# Altium integrated library HTLinn_OPV.IntLib: 20 symbols
Pins are listed as number, name and electrical type; pins without a type are passive.

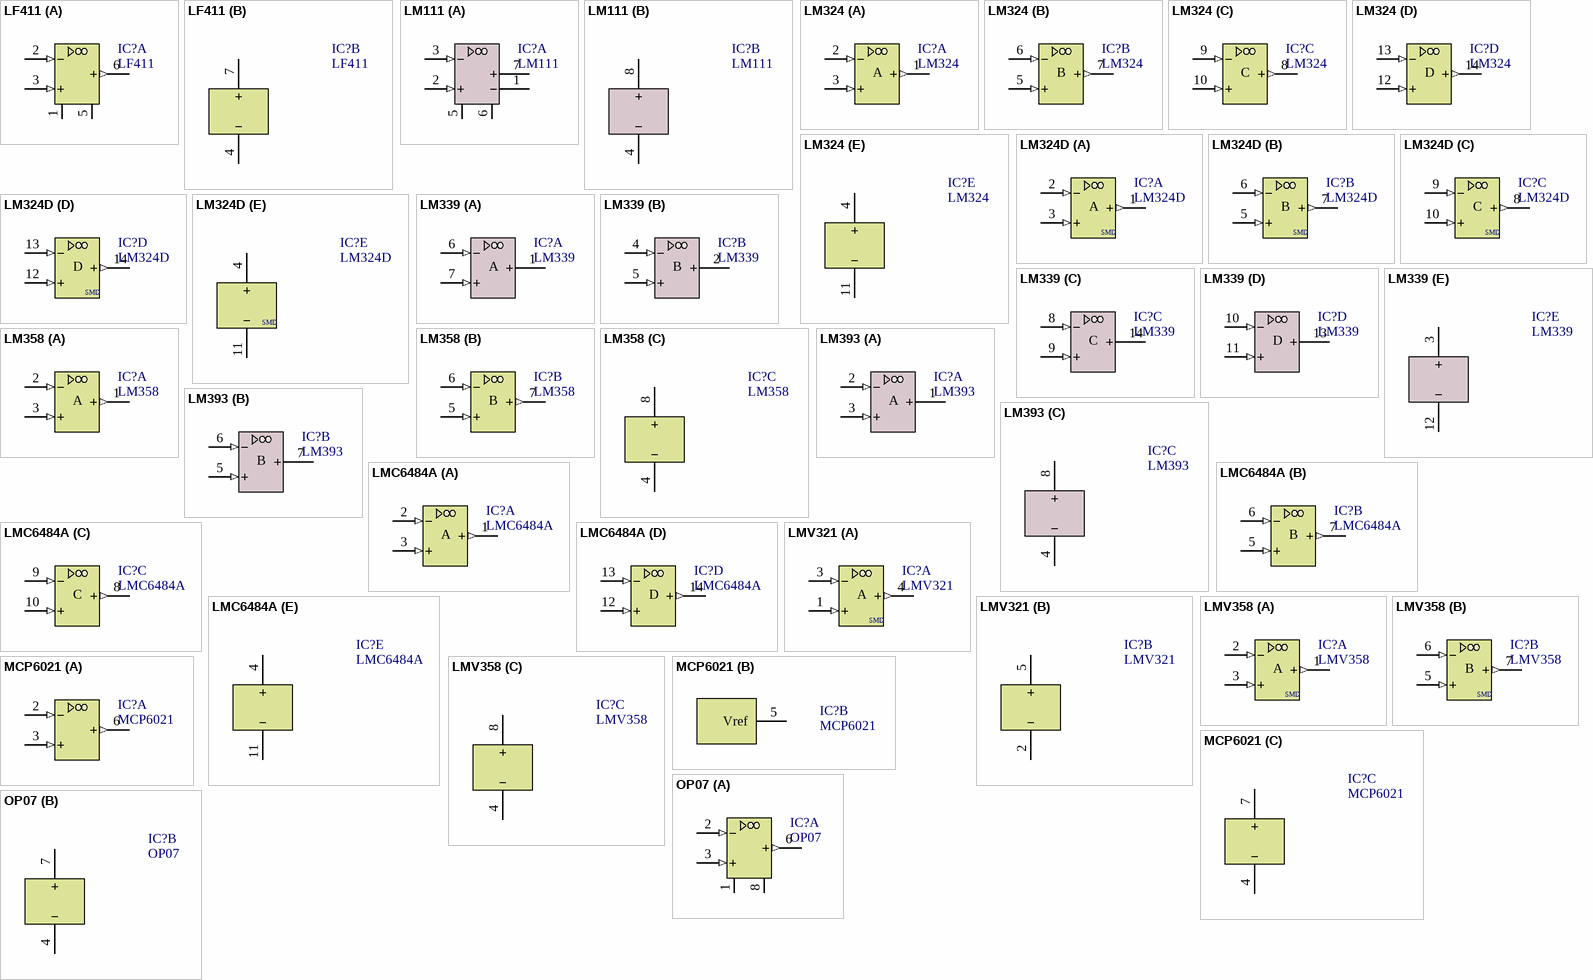
[diagram p0: symbols LF411 to OP07]

## LF411
designator IC?
Low Offset, Low Drift JFET Input Operational Amplifier; Usage: only permitted for non-commercial purposes at HTL I Innsbruck; SimulationModellSource: NSC Amplifier; Published: 21-Feb-2011; LatestRevisionDate: 31-Oct-2012; Publisher: Michael Kupfner
footprint DIP08 (DIP; 8 Leads; Row Spacing 7.62 mm; Pitch 2.54 mm)
simulation model LF411
part A pins: 1 OS NULL, 2 IN- (in), 3 IN+ (in), 5 OS NULL, 6 OUT (out), 8 NC hidden
part B pins: 4 V- (power), 7 V+ (power)
1 alternate drawing of the same symbol

## LM111
designator IC?
Differential Comparator with Strobe; Usage: only permitted for non-commercial purposes at HTL I Innsbruck; SimulationModellSource: TI Analog Comparator; Published: 21-Feb-2011; LatestRevisionDate: 31-Oct-2012; Publisher: Michael Kupfner
footprint DIP08 (DIP; 8 Leads; Row Spacing 7.62 mm; Pitch 2.54 mm)
simulation model LM111 (SUBCKT)
part A pins: 1 EMIT OUT (power), 2 IN+ (in), 3 IN- (in), 5 BAL, 6 BAL/STB, 7 COL OUT (oc)
part B pins: 4 V- (power), 8 V+ (power)

## LM324
designator IC?
Low-Power Quad Operational Amplifier; Usage: only permitted for non-commercial purposes at HTL I Innsbruck; SimulationModellSource: ST Operational Amplifier; Published: 21-Feb-2011; LatestRevisionDate: 31-Oct-2012; Publisher: Michael Kupfner
footprint DIP14 (DIP; 14 Leads; Row Spacing 7.62 mm; Pitch 2.54 mm)
simulation model LM324 (SUBCKT)
part A pins: 1 OUT (out), 2 IN- (in), 3 IN+ (in)
part B pins: 5 IN+ (in), 6 IN- (in), 7 OUT (out)
part C pins: 8 OUT (out), 9 IN- (in), 10 IN+ (in)
part D pins: 12 IN+ (in), 13 IN- (in), 14 OUT (out)
part E pins: 4 V+ (power), 11 V- (power)
2 alternate drawings of the same symbol
part A text: A
part B text: B
part C text: C
part D text: D

## LM324D
designator IC?
SMD Low-Power Quad Operational Amplifier; Usage: only permitted for non-commercial purposes at HTL I Innsbruck; SimulationModellSource: ST Operational Amplifier; Published: 21-Feb-2011; LatestRevisionDate: 02-Dec-2017; Publisher: Michael Kupfner
footprint SOIC-14 (SOIC, 14-Leads, Body 8.7x3.9mm, Pitch 1.27mm, IPC Low Density)
simulation model LM324 (SUBCKT)
part A pins: 1 OUT (out), 2 IN- (in), 3 IN+ (in)
part B pins: 5 IN+ (in), 6 IN- (in), 7 OUT (out)
part C pins: 8 OUT (out), 9 IN- (in), 10 IN+ (in)
part D pins: 12 IN+ (in), 13 IN- (in), 14 OUT (out)
part E pins: 4 V+ (power), 11 V- (power)
2 alternate drawings of the same symbol
part A text: A; SMD
part B text: B; SMD
part C text: C; SMD
part D text: D; SMD
part E text: SMD

## LM339
designator IC?
Quad Differential Comparator; SimulationModellSource: TI Analog Comparator; Usage: only permitted for non-commercial purposes at HTL I Innsbruck; Published: 21-Feb-2011; LatestRevisionDate: 31-Oct-2012; Publisher: Michael Kupfner
footprint DIP14 (DIP; 14 Leads; Row Spacing 7.62 mm; Pitch 2.54 mm)
simulation model LM339 (SUBCKT)
part A pins: 1 OUT (oc), 6 IN- (in), 7 IN+ (in)
part B pins: 2 OUT (oc), 4 IN- (in), 5 IN+ (in)
part C pins: 8 IN- (in), 9 IN+ (in), 14 OUT (oc)
part D pins: 10 IN- (in), 11 IN+ (in), 13 OUT (oc)
part E pins: 3 V+ (power), 12 V- (power)
2 alternate drawings of the same symbol
part A text: A
part B text: B
part C text: C
part D text: D

## LM358
designator IC?
Low-Power HiGain SingleSupply Dual Operational Amplifier; Usage: only permitted for non-commercial purposes at HTL I Innsbruck; SimulationModellSource: ST Operational Amplifier; Published: 03-Nov-2012; LatestRevisionDate: 03-Nov-2012; Publisher: Michael Kupfner
footprint DIP08 (DIP; 8 Leads; Row Spacing 7.62 mm; Pitch 2.54 mm)
simulation model LM358
part A pins: 1 OUT (out), 2 IN- (in), 3 IN+ (in)
part B pins: 5 IN+ (in), 6 IN- (in), 7 OUT (out)
part C pins: 4 V- (power), 8 V+ (power)
2 alternate drawings of the same symbol
part A text: A
part B text: B

## LM393
designator IC?
Dual Differential Comparator; SimulationModellSource: TI Analog Comparator; Usage: only permitted for non-commercial purposes at HTL I Innsbruck; Published: 21-Feb-2011; LatestRevisionDate: 18-May-2013; Publisher: Michael Kupfner
footprint DIP08 (DIP; 8 Leads; Row Spacing 7.62 mm; Pitch 2.54 mm)
simulation model LM393
part A pins: 1 OUT (oc), 2 IN- (in), 3 IN+ (in)
part B pins: 5 IN+ (in), 6 IN- (in), 7 OUT (oc)
part C pins: 4 V- (power), 8 V+ (power)
2 alternate drawings of the same symbol
part A text: A
part B text: B

## LMC6484A
designator IC?
CMOS Quad Rail to Rail Input and Output Operational Amplifier; Usage: only permitted for non-commercial purposes at HTL I Innsbruck; SimulationModellSource: NSC Amplifier; Published: 03-Sep-2011; LatestRevisionDate: 31-Oct-2012; Publisher: Michael Kupfner
footprint DIP14 (DIP; 14 Leads; Row Spacing 7.62 mm; Pitch 2.54 mm)
simulation model LMC6484A (SUBCKT)
part A pins: 1 OUT (out), 2 IN- (in), 3 IN+ (in)
part B pins: 5 IN+ (in), 6 IN- (in), 7 OUT (out)
part C pins: 8 OUT (out), 9 IN- (in), 10 IN+ (in)
part D pins: 12 IN+ (in), 13 IN- (in), 14 OUT (out)
part E pins: 4 V+ (power), 11 V- (power)
2 alternate drawings of the same symbol
part A text: A
part B text: B
part C text: C
part D text: D

## LMV321
designator IC?
Low-Voltage Rail-to-Rail Output Operational Amplifiers; Usage: only permitted for non-commercial purposes at HTL I Innsbruck; SimulationModellSource: <no appropriate Sim-Modell found>; Published: 04-jan_2018; LatestRevisionDate: 04-Jan-2018; Publisher: Michael Kupfner
footprint SOT-23-5_L (SOT23, 5-Leads, Body 2.9x1.6mm, Pitch 0.95mm, Lead Span 2.8mm, IPC High Density)
footprint SOT-23-5_M (SOT23, 5-Leads, Body 2.9x1.6mm, Pitch 0.95mm, Lead Span 2.8mm, IPC Low Density)
footprint SOT-23-5_N (SOT23, 5-Leads, Body 2.9x1.6mm, Pitch 0.95mm, Lead Span 2.8mm, IPC Medium Density)
part A pins: 1 IN+ (in), 3 IN- (in), 4 OUT (out)
part B pins: 2 V- (power), 5 V+ (power)
2 alternate drawings of the same symbol
part A text: A; SMD

## LMV358
designator IC?
Low-Power HiGain SingleSupply Dual Operational Amplifier; Usage: only permitted for non-commercial purposes at HTL I Innsbruck; SimulationModellSource: <no appropriate Sim-Modell found>; Published: 04-Jan-2017; LatestRevisionDate: 04-Jan-2017; Publisher: Michael Kupfner
footprint SOIC-8 (SOIC, 8-Leads, Body 4.9x3.8mm, Pitch 1.27mm, IPC Low Density)
part A pins: 1 OUT (out), 2 IN- (in), 3 IN+ (in)
part B pins: 5 IN+ (in), 6 IN- (in), 7 OUT (out)
part C pins: 4 V- (power), 8 V+ (power)
2 alternate drawings of the same symbol
part A text: A; SMD
part B text: B; SMD

## MCP6021
designator IC?
Rail-to-Rail Input/Output, 10MHz OpAmp; Usage: only permitted for non-commercial purposes at HTL I Innsbruck; SimulationModellSource: no Modell source found; Published: 16-May-2015; LatestRevisionDate: 16-May-2015; Publisher: Michael Kupfner
footprint DIP08 (DIP; 8 Leads; Row Spacing 7.62 mm; Pitch 2.54 mm)
footprint SOIC-8 (SOIC, 8-Leads, Body 4.9x3.8mm, Pitch 1.27mm, IPC Low Density)
part A pins: 2 IN- (in), 3 IN+ (in), 6 OUT (out)
part B pins: 5 Vref (power)
part C pins: 4 V- (power), 7 V+ (power)
1 alternate drawing of the same symbol

## OP07
designator IC?
Very Low Offset Single Bipolar Operational Amplifier; Usage: only permitted for non-commercial purposes at HTL I Innsbruck; SimulationModellSource: ST Operational Amplifier; Published: 21-Feb-2011; LatestRevisionDate: 31-Oct-2012; Publisher: Michael Kupfner
footprint DIP08 (DIP; 8 Leads; Row Spacing 7.62 mm; Pitch 2.54 mm)
simulation model OP07C (SUBCKT)
part A pins: 1 NULL1, 2 IN- (in), 3 IN+ (in), 5 NC hidden, 6 OUT (out), 8 NULL2
part B pins: 4 V- (power), 7 V+ (power)

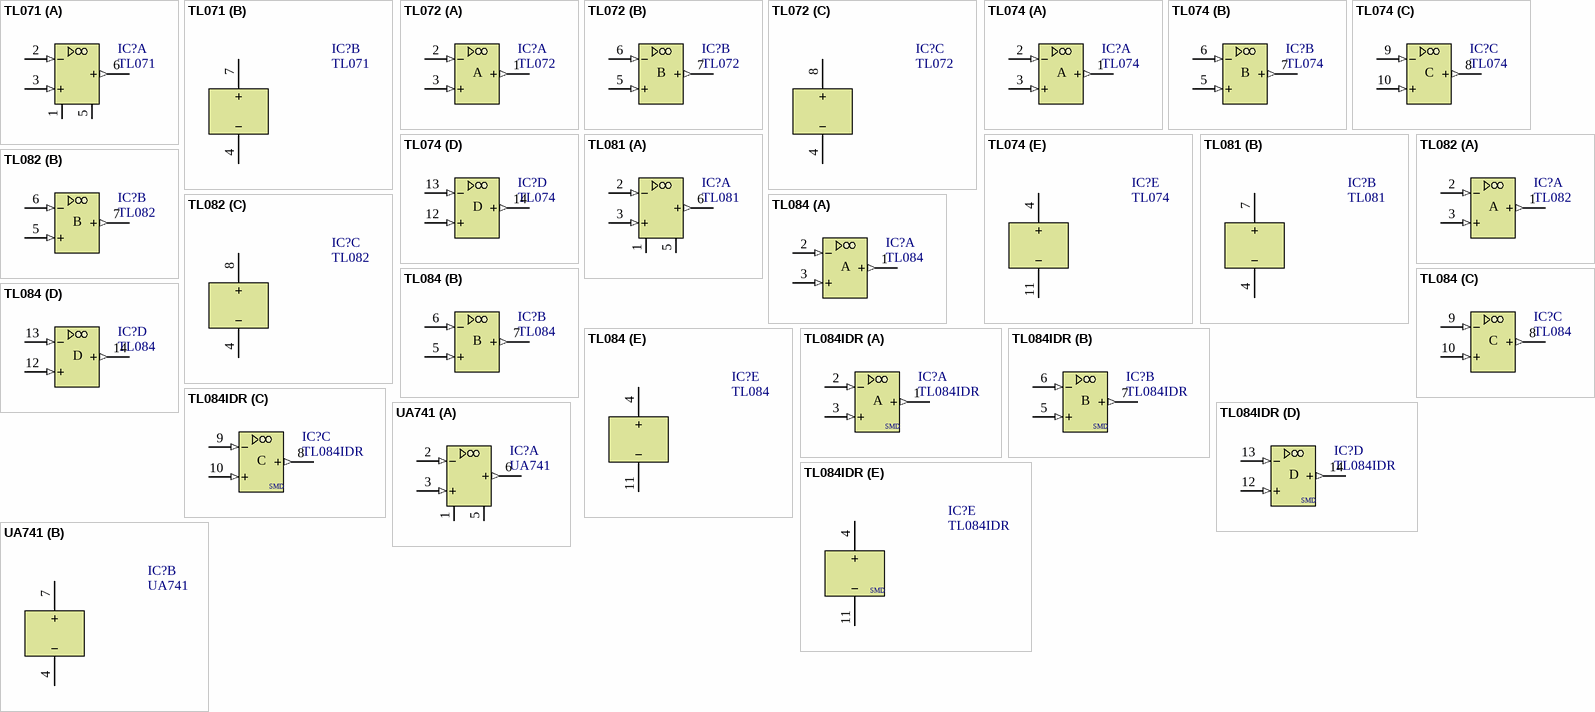
[diagram p1: symbols TL071 to UA741]

## TL071
designator IC?
Low-Noise J-FET Single Operational Amplifier; Usage: only permitted for non-commercial purposes at HTL I Innsbruck; SimulationModellSource: ST Operational Amplifier; Published: 21-Feb-2011; LatestRevisionDate: 31-Oct-2012; Publisher: Michael Kupfner
footprint DIP08 (DIP; 8 Leads; Row Spacing 7.62 mm; Pitch 2.54 mm)
simulation model TL071 (SUBCKT)
part A pins: 1 OS NULL, 2 IN- (in), 3 IN+ (in), 5 OS NULL, 6 OUT (out), 8 NC hidden
part B pins: 4 V- (power), 7 V+ (power)
1 alternate drawing of the same symbol

## TL072
designator IC?
Low-Noise J-FET Dual Operational Amplifier; Usage: only permitted for non-commercial purposes at HTL I Innsbruck; SimulationModellSource: ST Operational Amplifier; Published: 21-Feb-2011; LatestRevisionDate: 31-Oct-2012; Publisher: Michael Kupfner
footprint DIP08 (DIP; 8 Leads; Row Spacing 7.62 mm; Pitch 2.54 mm)
simulation model TL072 (SUBCKT)
part A pins: 1 OUT (out), 2 IN- (in), 3 IN+ (in)
part B pins: 5 IN+ (in), 6 IN- (in), 7 OUT (out)
part C pins: 4 V- (power), 8 V+ (power)
2 alternate drawings of the same symbol
part A text: A
part B text: B

## TL074
designator IC?
Low-Noise J-FET Quad Operational Amplifier; Usage: only permitted for non-commercial purposes at HTL I Innsbruck; SimulationModellSource: ST Operational Amplifier; Published: 21-Feb-2011; LatestRevisionDate: 31-Oct-2012; Publisher: Michael Kupfner
footprint DIP14 (DIP; 14 Leads; Row Spacing 7.62 mm; Pitch 2.54 mm)
simulation model TL074 (SUBCKT)
part A pins: 1 OUT (out), 2 IN- (in), 3 IN+ (in)
part B pins: 5 IN+ (in), 6 IN- (in), 7 OUT (out)
part C pins: 8 OUT (out), 9 IN- (in), 10 IN+ (in)
part D pins: 12 IN+ (in), 13 IN- (in), 14 OUT (out)
part E pins: 4 V+ (power), 11 V- (power)
2 alternate drawings of the same symbol
part A text: A
part B text: B
part C text: C
part D text: D

## TL081
designator IC?
General-Purpose J-FET Single Operational Amplifier; Usage: only permitted for non-commercial purposes at HTL I Innsbruck; SimulationModellSource: ST Operational Amplifier; Published: 21-Feb-2011; LatestRevisionDate: 31-Oct-2012; Publisher: Michael Kupfner
footprint DIP08 (DIP; 8 Leads; Row Spacing 7.62 mm; Pitch 2.54 mm)
simulation model TL081 (SUBCKT)
part A pins: 1 OS NULL, 2 IN- (in), 3 IN+ (in), 5 OS NULL, 6 OUT (out), 8 NC hidden
part B pins: 4 V- (power), 7 V+ (power)
1 alternate drawing of the same symbol

## TL082
designator IC?
General-Purpose J-FET Dual Operational Amplifier; Usage: only permitted for non-commercial purposes at HTL I Innsbruck; SimulationModellSource: ST Operational Amplifier; Published: 21-Feb-2011; LatestRevisionDate: 31-Oct-2012; Publisher: Michael Kupfner
footprint DIP08 (DIP; 8 Leads; Row Spacing 7.62 mm; Pitch 2.54 mm)
simulation model TL082 (SUBCKT)
part A pins: 1 OUT (out), 2 IN- (in), 3 IN+ (in)
part B pins: 5 IN+ (in), 6 IN- (in), 7 OUT (out)
part C pins: 4 V- (power), 8 V+ (power)
2 alternate drawings of the same symbol
part A text: A
part B text: B

## TL084
designator IC?
General-Purpose J-FET Quad Operational Amplifier; Usage: only permitted for non-commercial purposes at HTL I Innsbruck; SimulationModellSource: ST Operational Amplifier; Published: 21-Feb-2011; LatestRevisionDate: 31-Oct-2012; Publisher: Michael Kupfner
footprint DIP14 (DIP; 14 Leads; Row Spacing 7.62 mm; Pitch 2.54 mm)
simulation model TL084 (SUBCKT)
part A pins: 1 OUT (out), 2 IN- (in), 3 IN+ (in)
part B pins: 5 IN+ (in), 6 IN- (in), 7 OUT (out)
part C pins: 8 OUT (out), 9 IN- (in), 10 IN+ (in)
part D pins: 12 IN+ (in), 13 IN- (in), 14 OUT (out)
part E pins: 4 V+ (power), 11 V- (power)
2 alternate drawings of the same symbol
part A text: A
part B text: B
part C text: C
part D text: D

## TL084IDR
designator IC?
SMD General-Purpose J-FET Quad Operational Amplifier; Usage: only permitted for non-commercial purposes at HTL I Innsbruck; SimulationModellSource: ST Operational Amplifier; Published: 21-Feb-2011; LatestRevisionDate: 02-Dec-2017; Publisher: Michael Kupfner
footprint SOIC-14 (SOIC, 14-Leads, Body 8.7x3.9mm, Pitch 1.27mm, IPC Low Density)
simulation model TL084 (SUBCKT)
part A pins: 1 OUT (out), 2 IN- (in), 3 IN+ (in)
part B pins: 5 IN+ (in), 6 IN- (in), 7 OUT (out)
part C pins: 8 OUT (out), 9 IN- (in), 10 IN+ (in)
part D pins: 12 IN+ (in), 13 IN- (in), 14 OUT (out)
part E pins: 4 V+ (power), 11 V- (power)
2 alternate drawings of the same symbol
part A text: A; SMD
part B text: B; SMD
part C text: C; SMD
part D text: D; SMD
part E text: SMD

## UA741
designator IC?
General-Purpose Single Operational Amplifier; Usage: only permitted for non-commercial purposes at HTL I Innsbruck; SimulationModellSource: ST Operational Amplifier; Published: 21-Feb-2011; LatestRevisionDate: 31-Oct-2012; Publisher: Michael Kupfner
footprint DIP08 (DIP; 8 Leads; Row Spacing 7.62 mm; Pitch 2.54 mm)
simulation model UA741 (SUBCKT)
part A pins: 1 OS NULL, 2 IN- (in), 3 IN+ (in), 5 OS NULL, 6 OUT (out), 8 NC hidden
part B pins: 4 V- (power), 7 V+ (power)
1 alternate drawing of the same symbol